# Altium schematic symbol library Conn_Amphenol_10118194-0001LF_eec.SchLib: 1 symbol
Pins are listed as number, name and electrical type; pins without a type are passive.

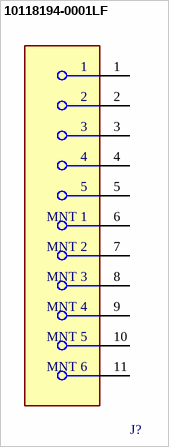
[diagram p0: symbol 10118194-0001LF]

## 10118194-0001LF
designator J?  (value not drawn)
pins: 1, 2, 3, 4, 5, 6 MNT 1, 7 MNT 2, 8 MNT 3, 9 MNT 4, 10 MNT 5, 11 MNT 6